# Altium footprint library CAPAE530X550N.PcbLib: 1 footprints
Each footprint in its own frame and in the unit in brackets; x right, y up, seen from the top. Pads: shape width x height; smd on the part's side, far side on the other; paste and mask are expansions set on the pad; w line width, h text height; cw(c..) or ccw(c..) is an arc to the next point about the centre after c.
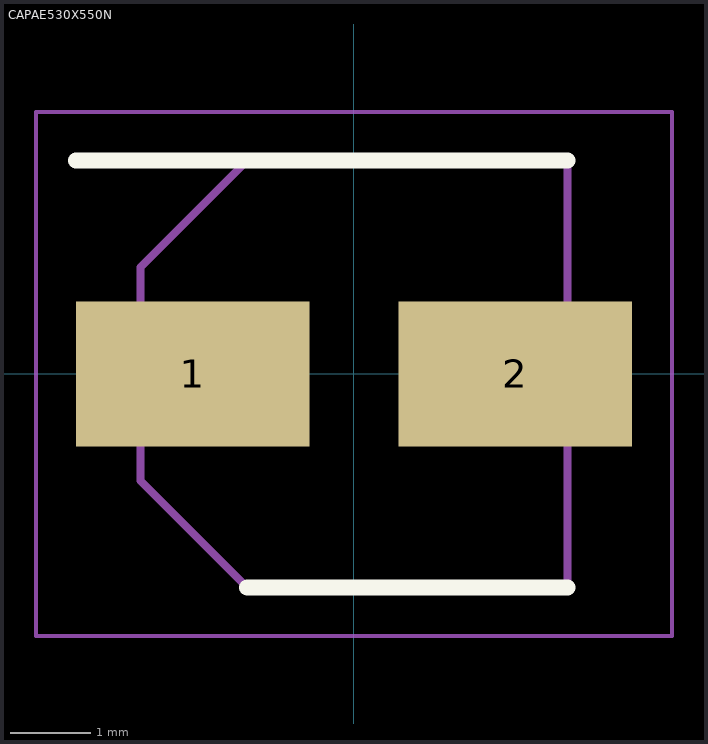
[diagram p0: the footprint, top view; thin cyan lines are the x and y axes]

## CAPAE530X550N [mm]
pads (2):
  rect 2.9x1.8 smd: 1(-2,0) 2(2,0)
Top Overlay:
  lines w0.2: -3.45,2.65 2.65,2.65 ; -1.325,-2.65 2.65,-2.65
Mechanical 15:
  lines w0.1: -2.65,-1.325 -2.65,1.325 -1.325,2.65 2.65,2.65 2.65,-2.65 -1.325,-2.65 -2.65,-1.325
Mechanical 20:
  lines w0.05: -3.95,-3.25 3.95,-3.25 3.95,3.25 -3.95,3.25 -3.95,-3.25